# EAGLE library part CONN_1X12 (library GPLIB_CONN)
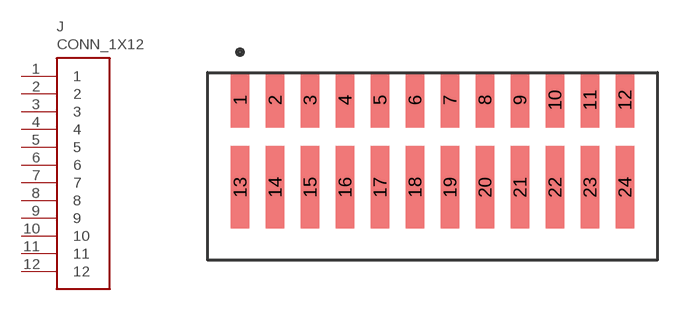
[diagram p0: symbol with the pads of CONN_1X12_1.5MM_SM_RA_A1504AWR-12-F4MB1-R; footprint CONN_1X12_1.5MM_SM_RA_A1504AWR-12-F4MB1-R]

Designator prefix J

## CONN_1X12_1.5MM_SM_RA_A1504AWR-12-F4MB1-R  [CONN_1X12_1.5MM_SM_RA_A1504AWR-12-F4MB1-R]
1  1  pas
2  2  pas
3  3  pas
4  4  pas
5  5  pas
6  6  pas
7  7  pas
8  8  pas
9  9  pas
10  10  pas
11  11  pas
12  12  pas

## Footprint CONN_1X12_1.5MM_SM_RA_A1504AWR-12-F4MB1-R (pad centres in mm)
smd 0.8 x 2.35: 1 -8.25,2.75; 2 -6.75,2.75; 3 -5.25,2.75; 4 -3.75,2.75; 5 -2.25,2.75; 6 -0.75,2.75; 7 0.75,2.75; 8 2.25,2.75; 9 3.75,2.75; 10 5.25,2.75; 11 6.75,2.75; 12 8.25,2.75
smd 0.8 x 3.55: 13 -8.25,-1; 14 -6.75,-1; 15 -5.25,-1; 16 -3.75,-1; 17 -2.25,-1; 18 -0.75,-1; 19 0.75,-1; 20 2.25,-1; 21 3.75,-1; 22 5.25,-1; 23 6.75,-1; 24 8.25,-1